# Altium footprint library Fiducial.PcbLib: 1 footprints
Each footprint in its own frame and in the unit in brackets; x right, y up, seen from the top. Pads: shape width x height; smd on the part's side, far side on the other; paste and mask are expansions set on the pad; w line width, h text height; cw(c..) or ccw(c..) is an arc to the next point about the centre after c.
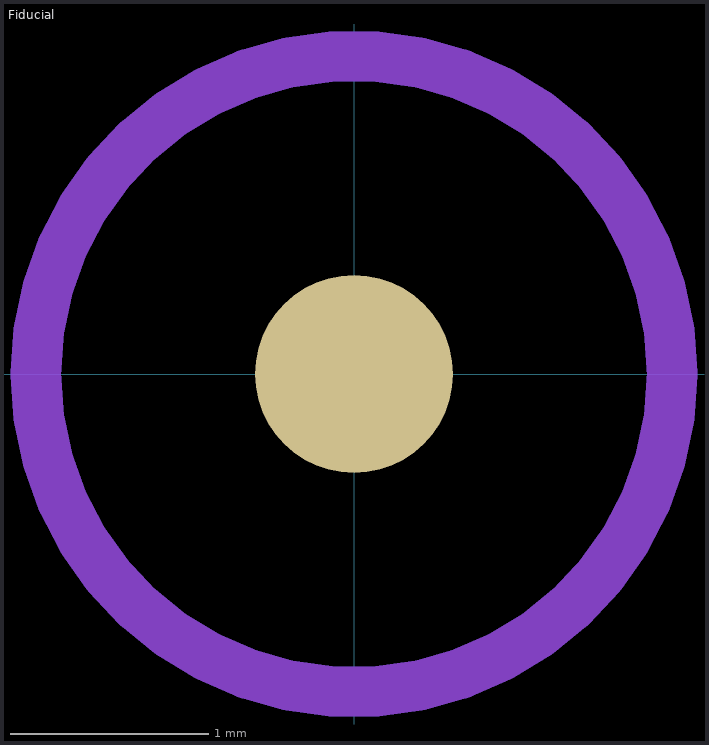
[diagram p0: the footprint, top view; thin cyan lines are the x and y axes]

## Fiducial [mm] "Fiducial"
height 1
pads (1):
  round 1 smd paste-1 mask+0.5: ""(0,0)
Bottom Layer keep-out:
  circle w0.254: c0,0 r1.606
3D body: height 0.5, standoff -0.5, extent -0.495,-0.498 0.5,0.498